# Altium footprint library LibTim_Passives.PcbLib: 13 footprints
Each footprint in its own frame and in the unit in brackets; x right, y up, seen from the top. Pads: shape width x height; smd on the part's side, far side on the other; paste and mask are expansions set on the pad; w line width, h text height; cw(c..) or ccw(c..) is an arc to the next point about the centre after c.
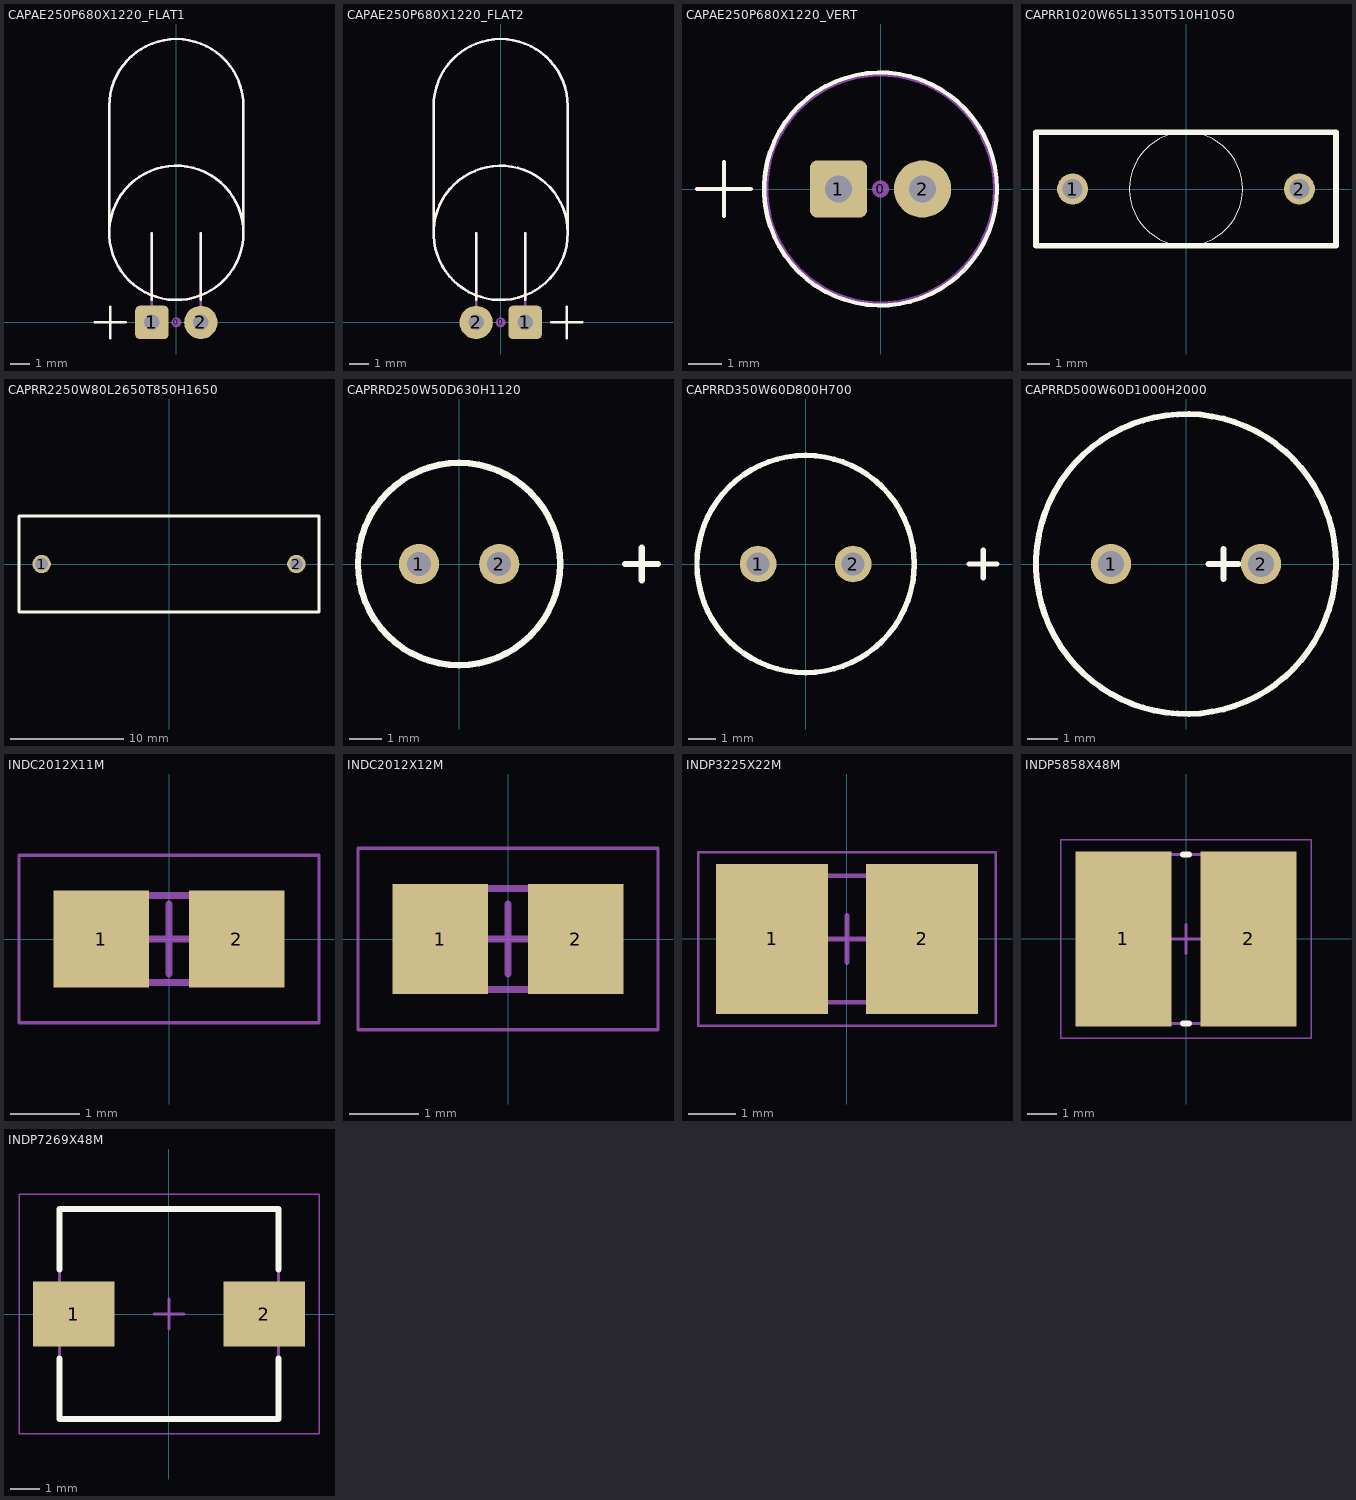
[diagram p0: the footprints below, top view; thin cyan lines are the x and y axes]

## CAPAE250P680X1220_FLAT1 [mm]
height 6.8
pads (3):
  round 0.508 on Mech15: 0(0,0)
  rrect25% 1.7x1.7 hole 0.8: 1(-1.25,0)
  round 1.7 hole 0.8: 2(1.25,0)
Top Overlay:
  circle w0.127: c0,4.572 r3.429
  lines w0.127: -4.18,0 -2.58,0 ; -3.429,4.572 -3.429,11.049 cw(c0,11.049) 3.429,11.049 3.429,4.572 ; -3.38,-0.8 -3.38,0.8 ; -1.25,1.143 -1.25,4.552 ; 1.25,1.143 1.25,4.552
Mechanical 13:
  circle w0.127: c0,4.572 r3.429
  lines w0.127: -3.429,4.572 -3.429,11.049 cw(c0,11.049) 3.429,11.049 3.429,4.572 ; -1.25,0 -1.25,4.552 ; 1.25,0 1.25,4.552
3D body "CAPAE250P680X1220_FLAT1.STEP": height 6.77, standoff -1.78, extent -3.372,-0.249 3.371,12.952

## CAPAE250P680X1220_FLAT2 [mm]
height 6.8
pads (3):
  round 0.508 on Mech15: 0(0,0)
  rrect25% 1.7x1.7 hole 0.8: 1(1.25,0)
  round 1.7 hole 0.8: 2(-1.25,0)
Top Overlay:
  circle w0.127: c0,4.572 r3.429
  lines w0.127: -3.429,4.572 -3.429,11.049 cw(c0,11.049) 3.429,11.049 3.429,4.572 ; -1.25,1.143 -1.25,4.552 ; 1.25,1.143 1.25,4.552 ; 2.58,0 4.18,0 ; 3.38,-0.8 3.38,0.8
Mechanical 13:
  circle w0.127: c0,4.572 r3.429
  lines w0.127: -3.429,4.572 -3.429,11.049 cw(c0,11.049) 3.429,11.049 3.429,4.572 ; -1.25,0 -1.25,4.552 ; 1.25,0 1.25,4.552
3D body "CAPAE250P680X1220_FLAT2.STEP": height 6.77, standoff -1.78, extent -3.371,-0.249 3.372,12.952

## CAPAE250P680X1220_VERT [mm]
height 12.2
pads (3):
  round 0.508 on Mech15: 0(0,0)
  rrect25% 1.7x1.7 hole 0.8: 1(-1.25,0)
  round 1.7 hole 0.8: 2(1.25,0)
Top Overlay:
  circle w0.127: c0,0 r3.459
  lines w0.127: -5.45,0 -3.85,0 ; -4.65,-0.8 -4.65,0.8
Mechanical 13:
  circle w0.127: c0,0 r3.4
3D body "CAPAE250P680X1220_VERT.STEP": height 12.2, standoff -1.78, extent -3.372,-3.372 3.371,3.372

## CAPRR1020W65L1350T510H1050 [mm]
height 11.5
pads (2):
  round 1.4 / inner round 1.9 / far side round 1.4 hole 0.9: 1(-5.1,0) 2(5.1,0)
Top Overlay:
  circle w0: c0,0 r2.55
  lines w0.254: -6.75,-2.55 -6.75,2.55 6.75,2.55 6.75,-2.55 -6.75,-2.55
3D body: height 11.5, standoff 1, extent -6.9,-2.7 6.9,2.7

## CAPRR2250W80L2650T850H1650 [mm]
height 16.6
pads (2):
  round 1.63 hole 1.13: 1(-11.25,0) 2(11.25,0)
Top Overlay:
  lines w0.254: -13.25,-4.25 -13.25,4.25 13.25,4.25 13.25,-4.25 -13.25,-4.25
3D body: height 16.5, standoff 0.1, extent -13.462,-4.445 13.462,4.445

## CAPRRD250W50D630H1120 [mm]
height 12.2
pads (2):
  round 1.25 / inner round 1.75 / far side round 1.25 hole 0.75: 1(-1.25,0) 2(1.25,0)
Top Overlay:
  circle w0.2: c0,0 r3.15
  lines w0.2: 5.182,0 6.198,0 ; 5.69,-0.508 5.69,0.508

## CAPRRD350W60D800H700 [mm]
height 8
pads (2):
  round 1.35 / inner round 1.85 / far side round 1.35 hole 0.85: 1(-1.75,0) 2(1.75,0)
Top Overlay:
  circle w0.2: c0,0 r4
  lines w0.2: 6.032,0 7.048,0 ; 6.54,-0.508 6.54,0.508
3D body: height 8, standoff 1, extent -4,-3.999 4,3.999

## CAPRRD500W60D1000H2000 [mm]
height 21
pads (2):
  round 1.35 / inner round 1.85 / far side round 1.35 hole 0.85: 1(-2.5,0) 2(2.5,0)
Top Overlay:
  circle w0.2: c0,0 r5
  lines w0.2: 0.742,0 1.758,0 ; 1.25,-0.508 1.25,0.508

## INDC2012X11M [mm] "Chip Inductor, 2-Leads, Body 2.00x1.15mm, IPC Low Density"
height 1.1
pads (2):
  rect 1.37x1.39 smd: 1(-0.97,0) 2(0.97,0)
Mechanical 13:
  lines w0.1: -1.1,-0.625 -1.1,0.625 1.1,0.625 1.1,-0.625 -1.1,-0.625
Mechanical 15:
  lines w0.05: -2.15,-1.2 -2.15,1.2 2.15,1.2 2.15,-1.2 -2.15,-1.2
  lines w0.1: -0.5,0 0.5,0 ; 0,-0.5 0,0.5
3D body: height 1.1, standoff 0, extent -0.59,-0.625 0.59,0.625
3D body: height 1.1, standoff 0, extent -1.1,-0.625 -0.59,0.625
3D body: height 1.1, standoff 0, extent 0.59,-0.625 1.1,0.625

## INDC2012X12M [mm] "Chip Inductor, 2-Leads, Body 2.00x1.25mm, IPC Low Density"
height 1.2
pads (2):
  rect 1.37x1.57 smd: 1(-0.97,0) 2(0.97,0)
Mechanical 13:
  lines w0.1: -1.1,-0.725 1.1,-0.725 1.1,0.725 -1.1,0.725 -1.1,-0.725
Mechanical 15:
  lines w0.05: -2.15,-1.3 2.15,-1.3 2.15,1.3 -2.15,1.3 -2.15,-1.3
  lines w0.1: -0.5,0 0.5,0 ; 0,-0.5 0,0.5
3D body: height 1.2, standoff 0, extent 0.59,-0.725 1.1,0.725
3D body: height 1.2, standoff 0, extent -1.1,-0.725 -0.59,0.725
3D body: height 1.2, standoff 0, extent -0.59,-0.725 0.59,0.725

## INDP3225X22M [mm] "Precision Wire Wound Inductor, 2-Leads, Body 3.25x2.50mm, IPC Low Density"
height 2.2
pads (2):
  rect 2.4x3.2 smd: 1(-1.6,0) 2(1.6,0)
Mechanical 13:
  lines w0.1: -1.8,-1.35 1.8,-1.35 1.8,1.35 -1.8,1.35 -1.8,-1.35
Mechanical 15:
  lines w0.05: -3.175,-1.85 3.175,-1.85 3.175,1.85 -3.175,1.85 -3.175,-1.85
  lines w0.1: -0.5,0 0.5,0 ; 0,-0.5 0,0.5
3D body: height 2.2, standoff 0, extent -1.8,-1.35 1.8,1.35

## INDP5858X48M [mm] "Precision Wire Wound Inductor, 2-Leads, Body 5.77x5.77mm, IPC Low Density"
height 4.8
pads (2):
  rect 3.3x6 smd: 1(-2.15,0) 2(2.15,0)
Top Overlay:
  lines w0.2: -0.1,-2.9 0.1,-2.9 ; -0.1,2.9 0.1,2.9
Mechanical 13:
  lines w0.1: -2.9,-2.9 2.9,-2.9 2.9,2.9 -2.9,2.9 -2.9,-2.9
Mechanical 15:
  lines w0.05: -4.3,-3.4 4.3,-3.4 4.3,3.4 -4.3,3.4 -4.3,-3.4
  lines w0.1: -0.5,0 0.5,0 ; 0,-0.5 0,0.5
3D body: height 4.8, standoff 0, extent -2.9,-2.9 2.9,2.9

## INDP7269X48M [mm] "Precision Wire Wound Inductor, 2-Leads, Body 7.20x6.90mm, IPC Low Density"
height 4.8
pads (2):
  rect 2.75x2.2 smd: 1(-3.225,0) 2(3.225,0)
Top Overlay:
  lines w0.2: -3.7,-1.5 -3.7,-3.55 3.7,-3.55 3.7,-1.5 ; -3.7,1.5 -3.7,3.55 3.7,3.55 3.7,1.5
Mechanical 13:
  lines w0.1: -3.7,-3.55 -3.7,3.55 3.7,3.55 3.7,-3.55 -3.7,-3.55
Mechanical 15:
  lines w0.05: -5.075,-4.05 -5.075,4.05 5.075,4.05 5.075,-4.05 -5.075,-4.05
  lines w0.1: -0.5,0 0.5,0 ; 0,-0.5 0,0.5
3D body: height 4.8, standoff 0, extent -3.7,-3.55 3.7,3.55